# Altium schematic symbol library AltiumLib.SchLib: 341 symbols (part 5 of 5)
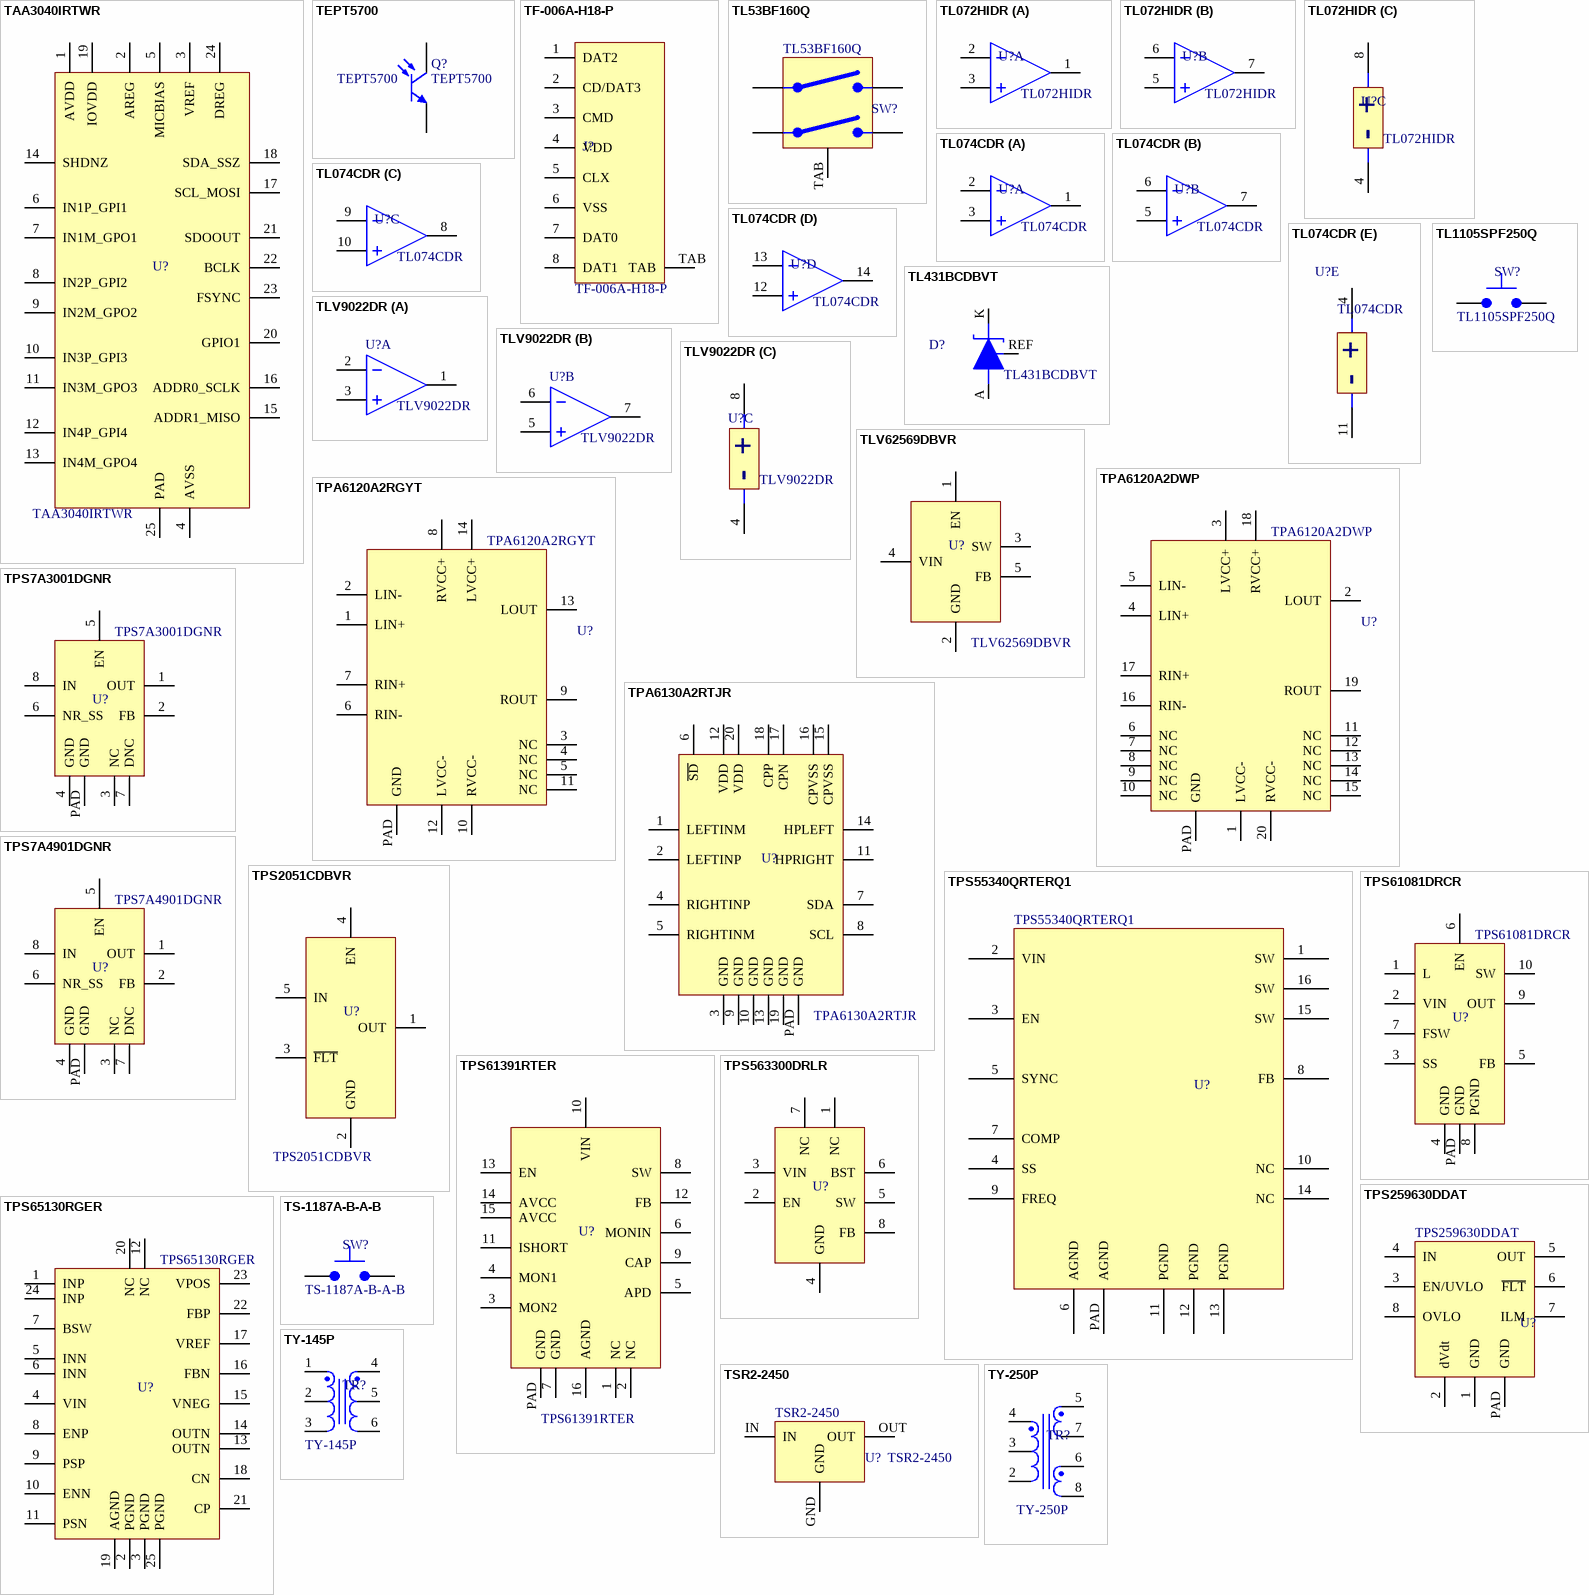
[diagram p23: symbols TAA3040IRTWR to TY-250P]

## TPS55340QRTERQ1
designator U?
Switching Regulator, Current-mode, 7.75A, 2500kHz Switching Freq-Max, PQCC16; Manufacturer: Texas Instruments; Switching Frequency-Max: 2.5MHz; Min Input Voltage: 2.9V; Switcher Configuration: BOOST; Control Technique: PULSE WIDTH MODULATION; Nominal Input Voltage: 5V; Max Input Voltage: 38V; Package Body Material: Plastic; Number of Functions: 1; Surface Mount: Yes; RoHS Compliant: Yes; Max Output Current: 7.75A; Peak Reflow Temperature (Cel): 260°C; Moisture Sensitivity Level: 2; Category: IC; Terminal Finish: Nickel; Terminal Pitch: 0.5mm; Terminal Form: No Lead; JESD-609 Code: e4; Terminal Position: QUAD; Width: 3mm; Min Operating Temperature: -40°C; Control Mode: CURRENT-MODE; Package Code: HVQCCN; Height - Seated (Max): 0.8mm; Number of Pins: 16; Sub-Category: Power; Temperature Grade: AUTOMOTIVE; REACH SVHC: Yes; Max Operating Temperature: 125°C; JESD-30 Code: S-PQCC-N16; Package Style: CHIP CARRIER, HEAT SINK/SLUG, VERY THIN PROFILEMeter; Package Shape: Square; Analog IC - Other Type: SWITCHING REGULATOR; Length: 3mm; Manufacturer Part Number: TPS55340QRTERQ1; Component Type: Standard_IC_Power; Package: QFN16; Value: TPS55340QRTERQ1
footprint PQFN50P300X300X80_HS-17N (PQFN, 16-Leads, Body 3.00x3.00mm, Pitch 0.50mm, Thermal Pad 1.66x1.66mm, IPC Medium Density)
pins: 1 SW (power), 2 VIN (power), 3 EN (power), 4 SS, 5 SYNC, 6 AGND (power), 7 COMP, 8 FB, 9 FREQ (power), 10 NC, 11 PGND (power), 12 PGND (power), 13 PGND (power), 14 NC, 15 SW (power), 16 SW (power), PAD AGND (power)

## TPS61081DRCR
designator U?
High-Voltage DC-DC Boost Converter With 0.5-A,1.3-A Integrated Switch; Manufacturer: Texas Instruments; Category: IC; Sub-Category: Power; Package: VSON10; Value: TPS61081DRCR
footprint VSON10
pins: 1 L, 2 VIN, 3 SS, 4 GND, 5 FB, 6 EN, 7 FSW, 8 PGND, 9 OUT, 10 SW, PAD GND

## TPS61391RTER
designator U?
85-VOUT Boost Converter with Current Mirror Integrated; Manufacturer: Texas Instruments; Category: IC; Sub-Category: Power; Value: TPS61391RTER
footprint QFN50P300X300X80_HS-17N (QFN, 16-Leads, Body 3,00x3,00mm, Pitch 0,50mm, Thermal Pad 1,68x1,68mm, IPC Medium Density)
pins: 1 NC, 2 NC, 3 MON2, 4 MON1, 5 APD, 6 MONIN, 7 GND, 8 SW, 9 CAP, 10 VIN, 11 ISHORT, 12 FB, 13 EN, 14 AVCC, 15 AVCC, 16 AGND, PAD GND

## TPS65130RGER
designator U?
Dual, Positive and Negative Output DC-DC Converter; Manufacturer: Texas Instruments; Category: IC; Sub-Category: Power; Package: QFN24; Value: TPS65130RGER
footprint QFN50P400X400X100_HS-25N (QFN, 24-Leads, Body 4,00x4,00mm, Pitch 0,50mm, Thermal Pad 2,45x2,45mm, IPC Medium Density)
pins: 1 INP, 2 PGND, 3 PGND, 4 VIN, 5 INN, 6 INN, 7 BSW, 8 ENP, 9 PSP, 10 ENN, 11 PSN, 12 NC, 13 OUTN, 14 OUTN, 15 VNEG, 16 FBN, 17 VREF, 18 CN, 19 AGND, 20 NC, 21 CP, 22 FBP, 23 VPOS, 24 INP, 25 PGND

## TPS259630DDAT
designator U?
2.7 to 19 V, 0.125 to 2-A, 89-mΩ eFuse With Accurate Current Monitor and Fast Overvoltage Protection; Manufacturer: Texas Instruments; Category: IC; RoHS Compliant: Yes; Sub-Category: Power; Manufacturer Part Number: TPS259630DDAT; Component Type: Standard_IC_Power; Package: SOIC8; Value: TPS259630DDAT
footprint SOIC127P600X163_HS-9N; pin to pad PAD>9
pins: 1 GND, 2 dVdt, 3 EN/UVLO, 4 IN, 5 OUT, 6 ~{FLT}, 7 ILM, 8 OVLO, PAD GND

## TPS563300DRLR
designator U?  (value not drawn)
3.8-V to 28-V, 3-A Synchronous Buck Converter in SOT583 Package; Manufacturer: Texas Instruments; Value: TPS563300DRLR; Category: IC; Sub-Category: Power; Package: SOT-583-8
footprint SOT583-8
pins: 1 NC, 2 EN, 3 VIN, 4 GND, 5 SW, 6 BST, 7 NC, 8 FB

## TS-1187A-B-A-B
designator SW?
None Without 50mA 5.1mm 100000 Times 160gf 12V 5.1mm 1.5mm Round Button Standing paste SPST SMD Tactile Switches ROHS; Manufacturer: XKB Connection; Category: Switch; Sub-Category: Tactile; Value: TS-1187A-B-A-B
footprint TS-1187A-B-A-B; pin to pad 1>A+B 2>C+D
pins: 1, 2

## TSR2-2450
designator U?
DC-DC Regulated Power Supply Module, 1 Output, 10W, Hybrid; Manufacturer: Traco Power; Package Body Material: Plastic; Min Output Voltage: 4.9V; Number of Functions: 1; Nominal Output Voltage: 5V; Load Regulation-Max: 1%; Surface Mount: No; Max Output Voltage: 5.1V; Trim/Adjustable Output: No; Nominal Input Voltage: 24V; Max Input Voltage: 36V; Min Input Voltage: 6.5V; Max Output Power: 10W; Terminal Pitch: 2.54mm; Number of Pins: 3; Terminal Form: Through Hole; Category: IC; Temperature Grade: OTHER; Package Style: MICROELECTRONIC ASSEMBLYMeter; Length: 14mm; Min Operating Temperature: -40°C; Number of Outputs: 1; Sub-Category: Power; Max Operating Temperature: 67°C; Terminal Position: SINGLE; Analog IC - Other Type: DC-DC REGULATED POWER SUPPLY MODULE; Package Shape: Rectangular; Height - Seated (Max): 10.6mm; Width: 7.5mm; RoHS Compliant: Yes; REACH SVHC: Yes; Technology: HYBRID; Manufacturer Part Number: TSR2-2450; Component Type: Standard_IC_Power; Value: TSR2-2450
footprint TSR2-2450 (Non-Isolated DC/DC Converters 6.5-36Vin 5V 2A SIP switching regulator); pin to pad GND>2 IN>1 OUT>3
pins: GND, IN, OUT

## TY-145P
designator TR?
PC Mount - Plug-In Printed Circuit Audio Transformer; Manufacturer: Triad Magnetics; Category: Inductor; Sub-Category: Transformer; Value: TY-145P
footprint TY-145P
pins: 1, 2, 3, 4, 5, 6

## TY-250P
designator TR?
PC Mount - Plug-In Printed Circuit Audio Transformers; Manufacturer: Triad Magnetics; Category: Inductor; Sub-Category: Transformer; Value: TY-250P
footprint TY-250P
pins: 2, 3, 4, 5, 6, 7, 8

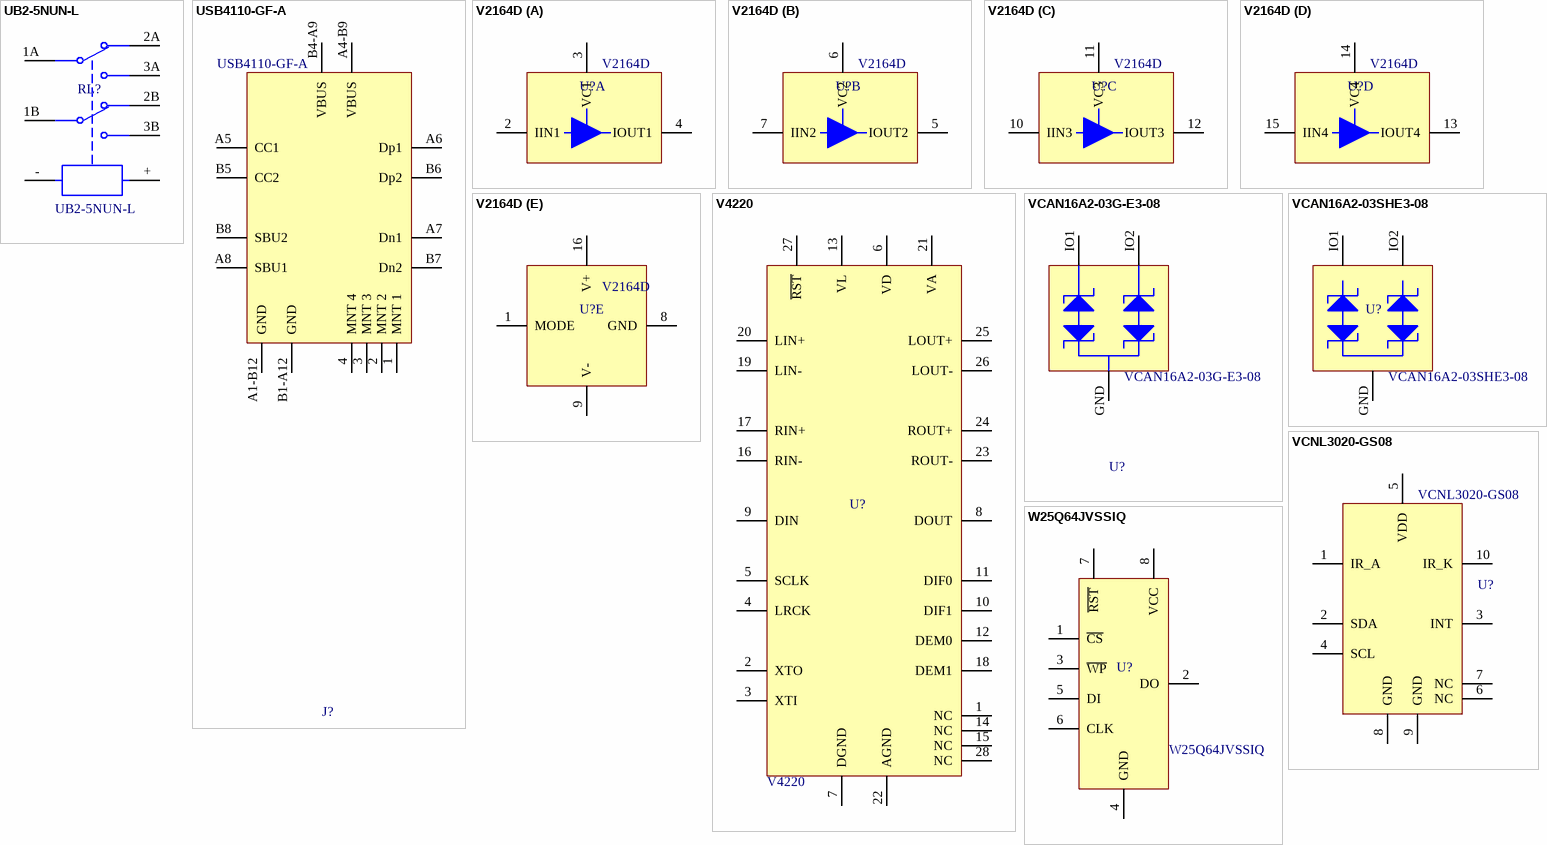
[diagram p17: symbols UB2-5NUN-L to W25Q64JVSSIQ]

## UB2-5NUN-L
designator RL?
Low Signal Relays - PCB KEMET, UB2, Relays, Signal; Manufacturer: Kemet; Category: Switch; Sub-Category: Relay; Value: UB2-5NUN-L
footprint UB2-3NUN-L
pins: 1A, 1B, 2A, 2B, 3A, 3B, +, -

## USB4110-GF-A
designator J?
Type C USB 2.0 Connector; Manufacturer: GCT; Conn Orientation: Right Angle; Usb Standard: USB 2.0; Voltage Rating: 20V; Current Rating: 3/4.25/1.25/0.25A; Number Of Contacts: 16; Is Female: yes; Shielding: true; Standoff Height: 0.1mm; Octopart: https://octopart.com/usb4110-gf-a-gct-103941985; Temperature: -40°C to +85°C; RoHS: TRUE; Automotive: No; Contact Material: Gold,Nickel; Device Class L1: Connectors; Device Class L2: USB Connectors; Package: 0; Lead Free: Yes; ComponentLink2URL: https://gct.co/files/drawings/usb4110.pdf; Temperature Range High: +85°C; Temperature Range Low: -40°C; Height: 3.46mm; Manufacturer Part Number: USB4110-GF-A; ComponentLink2Description: Datasheet; Device Class L3: unset; Digikey Description: CONN USB 2.0 TYPE-C R/A SMT; Category: Connector; Sub-Category: USB; Value: USB4110-GF-A
footprint FP-USB4110-GF-A-MFG
pins: 1 MNT 1, 2 MNT 2, 3 MNT 3, 4 MNT 4, A1-B12 GND, A4-B9 VBUS (power), A5 CC1 (power), A6 Dp1, A7 Dn1, A8 SBU1, B1-A12 GND, B4-A9 VBUS (power), B5 CC2 (power), B6 Dp2, B7 Dn2, B8 SBU2

## V2164D
designator U?
Low-Cost Quad Voltage-Controlled Amplifier; Manufacturer: Coolaudio; Category: IC; Sub-Category: Audio; Package: SOIC16; Value: V2164D
footprint SOIC127P600X175-16N (SOIC, 16-Leads, Body 10,40x3,95mm, Pitch 1,27mm, IPC Medium Density)
part A pins: 2 IIN1, 3 VC1, 4 IOUT1
part B pins: 5 IOUT2, 6 VC2, 7 IIN2
part C pins: 10 IIN3, 11 VC3, 12 IOUT3
part D pins: 13 IOUT4, 14 VC4, 15 IIN4
part E pins: 1 MODE, 8 GND, 9 V-, 16 V+

## V4220
designator U?
Low-Cost 24-Bit Stereo Codec with 110 dB Signal-to-Noise Ratio; Manufacturer: Coolaudio; Category: IC; Sub-Category: Audio; Package: SSOP28; Value: V4220
footprint SOP127P600-8N
pins: 1 NC, 2 XTO, 3 XTI, 4 LRCK, 5 SCLK, 6 VD, 7 DGND, 8 DOUT, 9 DIN, 10 DIF1, 11 DIF0, 12 DEM0, 13 VL, 14 NC, 15 NC, 16 RIN-, 17 RIN+, 18 DEM1, 19 LIN-, 20 LIN+, 21 VA, 22 AGND, 23 ROUT-, 24 ROUT+, 25 LOUT+, 26 LOUT-, 27 ~{RST}, 28 NC

## VCAN16A2-03G-E3-08
designator U?
Bidirectional Symmetrical (BiSy) Low Capacitance, Dual-Line ESD Protection Diode; Manufacturer: Vishay; RoHS Compliant: Yes; Sub-Category: TVS; Category: Diode; Manufacturer Part Number: VCAN16A2-03G-E3-08; Component Type: Standard_Diode; Package: SOT323-3; Value: VCAN16A2-03G-E3-08
footprint SOT65P210X110-3N (SOT23, 3-Leads, Body 2,00x2,10mm, Pitch 0,65mm, IPC Medium Density); pin to pad GND>3 IO1>1 IO2>2
pins: GND, IO1, IO2

## VCAN16A2-03SHE3-08
designator U?
ESD Protection Array; Manufacturer: Vishay; Category: Diode; Sub-Category: TVS; Package: SOT-323-3; Value: VCAN16A2-03SHE3-08
footprint SOT95P248X115-3N (SOT23, 3-Leads, Body 2,95x2,48mm, Pitch 0,95mm, IPC Medium Density); pin to pad GND>3 IO1>1 IO2>2
pins: GND, IO1, IO2

## VCNL3020-GS08
designator U?
Photoelectric Sensor, 1mm Min, 200mm Max, Rectangular, Surface Mount; Manufacturer: Vishay; Output Interface Type: I2C; Body Length or Diameter: 4.9mm; Min Supply Voltage: 2.5V; Sensor Type: PROXIMITY SENSOR,PHOTOELECTRIC; Body Height: 0.83mm; Operating Current-Max: 4mA; Body Breadth: 2.4inch; Max Supply Voltage: 3.6V; Sub-Category: Optical; Category: IC; Min Operating Temperature: -25°C; Mounting Technology: Surface Mount; Package Shape/Style: Rectangular; Measurement Range-Min (mm): 1mm; Termination: Solder; RoHS Compliant: Yes; Max Operating Temperature: 85°C; Measurement Range-Max (mm): 200mm; Manufacturer Part Number: VCNL3020-GS08; Component Type: Standard_IC_Optical; Value: VCNL3020-GS08
footprint VCNL3020 (Fully Integrated Proximity Sensor With Infrared Emitter,  I  2C Interface, and Interrupt Function)
pins: 1 IR_A, 2 SDA, 3 INT, 4 SCL, 5 VDD, 6 NC, 7 NC, 8 GND, 9 GND, 10 IR_K

## W25Q64JVSSIQ
designator U?
Flash NOR spiFlash, 64M-bit, 4Kb Uniform Sector; Manufacturer: Winbond; Category: IC; Sub-Category: Memory; Package: SOIC8 Wide; Value: W25Q64JVSSIQ
footprint SOIC127P790X191-8N (SOIC, 8-Leads, Body 5,23x5,23mm, Pitch 1,27mm, IPC Medium Density)
pins: 1 ~{CS}, 2 DO, 3 ~{WP}, 4 GND, 5 DI, 6 CLK, 7 ~{RST}, 8 VCC

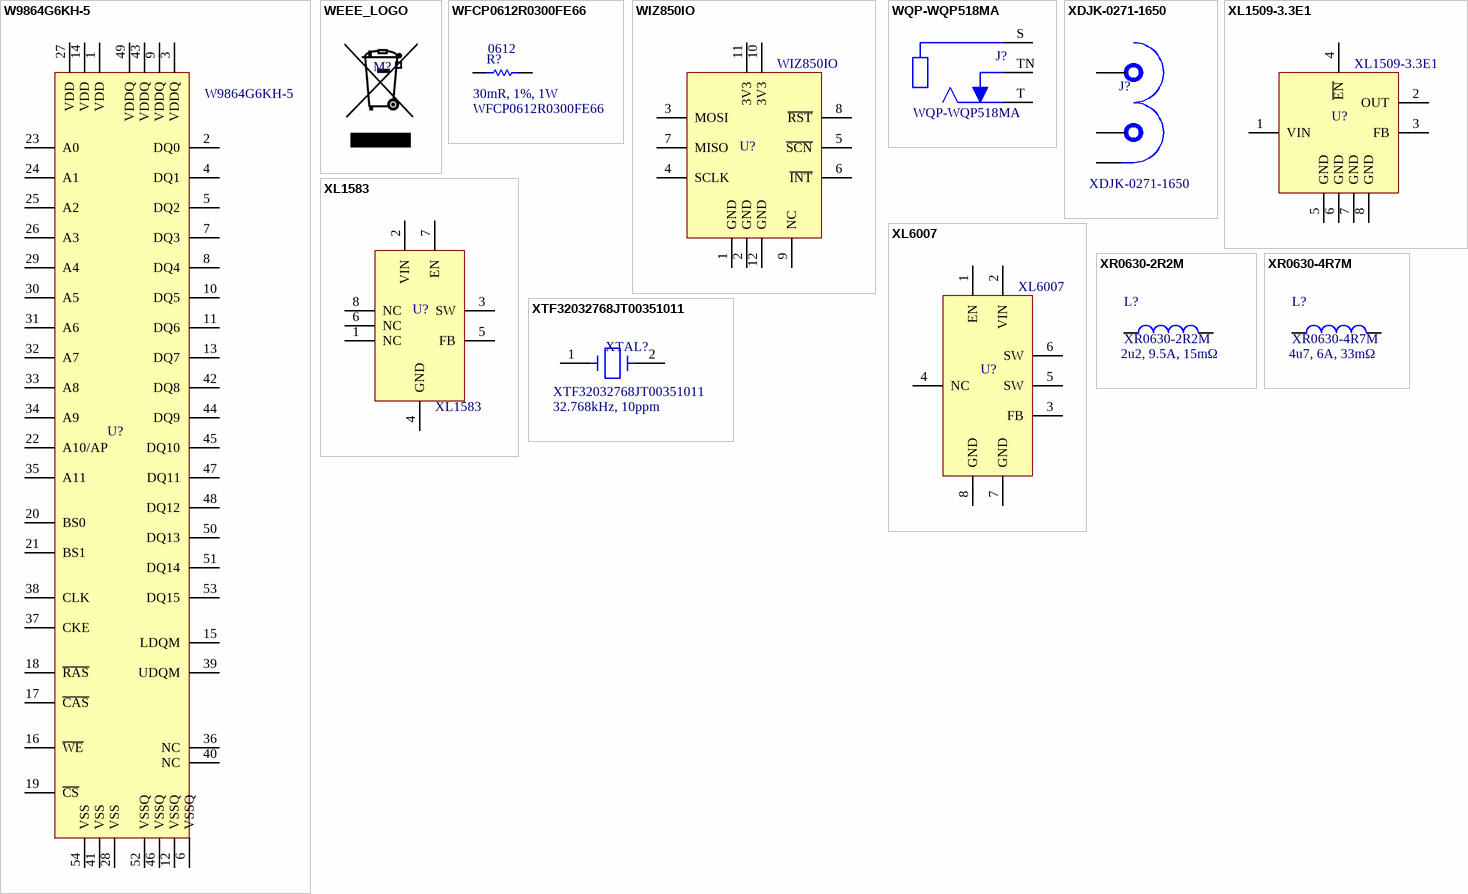
[diagram p18: symbols W9864G6KH-5 to XTF32032768JT00351011]

## W9864G6KH-5
designator U?
DRAM 64Mb, SDR SDRAM, x16, 200MHz, 46nm; Manufacturer: Winbond; Category: IC; Sub-Category: Memory; Package: TSOP54; Value: W9864G6KH-5
footprint TSOP80P1180X120-54N (TSOP, 54-Leads, Body 22,22x10,16mm, Pitch 0,80mm, IPC Medium Density)
pins: 1 VDD, 2 DQ0, 3 VDDQ, 4 DQ1, 5 DQ2, 6 VSSQ, 7 DQ3, 8 DQ4, 9 VDDQ, 10 DQ5, 11 DQ6, 12 VSSQ, 13 DQ7, 14 VDD, 15 LDQM, 16 ~{WE}, 17 ~{CAS}, 18 ~{RAS}, 19 ~{CS}, 20 BS0, 21 BS1, 22 A10/AP, 23 A0, 24 A1, 25 A2, 26 A3, 27 VDD, 28 VSS, 29 A4, 30 A5, 31 A6, 32 A7, 33 A8, 34 A9, 35 A11, 36 NC, 37 CKE, 38 CLK, 39 UDQM, 40 NC, 41 VSS, 42 DQ8, 43 VDDQ, 44 DQ9, 45 DQ10, 46 VSSQ, 47 DQ11, 48 DQ12, 49 VDDQ, 50 DQ13, 51 DQ14, 52 VSSQ, 53 DQ15, 54 VSS

## WEEE_LOGO
designator M?  (value not drawn)
5*3.5mm WEEE logo crossed out bin with rectangle; Value: WEEE_LOGO; Category: Mechanical; Sub-Category: Logo
footprint WEEE_Logo

## WFCP0612R0300FE66
designator R?  Package: 0612  Notes: 30mR, 1%, 1W  (hidden comment: WFCP0612R0300FE66)
Res 0.03 Ohm 1.0 W 1% 0612 SMD; Manufacturer: Vishay; Category: Resistor; Sub-Category: SMD; Manufacturer Part Number: WFCP0612R0300FE66; Component Type: Standard_Passive_R; Value: WFCP0612R0300FE66
footprint RESC1632X10N (Chip Resistor, 2-Leads, Body 1.60x3.20mm, IPC Medium Density)
pins: 1, 2

## WIZ850IO
designator U?
W5500 ethernet module; Manufacturer: WIZnet; Category: Module; Sub-Category: Com; Value: WIZ850IO
footprint WIZ850io (Ethernet Module)
pins: 1 GND, 2 GND, 3 MOSI, 4 SCLK, 5 ~{SCN}, 6 ~{INT}, 7 MISO, 8 ~{RST}, 9 NC, 10 3V3, 11 3V3, 12 GND

## WQP-WQP518MA
designator J?
3.5mm TS Jack, vertical 10mm height, Thonkiconn; Manufacturer: Wenzhou QingPu Electronics; Category: Connector; Sub-Category: Jack; Value: WQP-WQP518MA
footprint WQP-WQP518MA
pins: S, T, TN

## XDJK-0271-1650
designator J?
Black RCA Jack Right Angle; Manufacturer: Lian Xin Technology; Category: Connector; Sub-Category: RCA; Value: XDJK-0271-1650
footprint XDJK-0271-1650
pins: 1, 2, 3

## XL1509-3.3E1
designator U?
Step-down type 2A 4.5V~40V SOP-8 DC-DC Converters ROHS; Manufacturer: XLSEMI; Package: SOIC8; Category: IC; Sub-Category: Power; Value: XL1509-3.3E1
footprint SOIC127P600X175-8L (SOIC, 8-Leads, Body 4,90x3,90mm, Pitch 1,27mm, IPC High Density)
pins: 1 VIN, 2 OUT, 3 FB, 4 ~{EN}, 5 GND, 6 GND, 7 GND, 8 GND

## XL1583
designator U?
3A 380KHz 23V Buck DC to DC Converter; Manufacturer: XLSemi; Category: IC; Sub-Category: Power; Package: SOIC8; Value: XL1583
footprint SOIC127P600X175-8L (SOIC, 8-Leads, Body 4,90x3,90mm, Pitch 1,27mm, IPC High Density)
pins: 1 NC, 2 VIN, 3 SW, 4 GND, 5 FB, 6 NC, 7 EN, 8 NC

## XL6007
designator U?
400KHz 42V 2A Switching Current Boost/Buck-Boost/Inverting DC/DC Converter; Manufacturer: XLSemi; Category: IC; Sub-Category: Power; Package: SOIC8; Value: XL6007
footprint SOIC127P600X175-8L (SOIC, 8-Leads, Body 4,90x3,90mm, Pitch 1,27mm, IPC High Density)
pins: 1 EN, 2 VIN, 3 FB, 4 NC, 5 SW, 6 SW, 7 GND, 8 GND

## XR0630-2R2M
designator L?  Notes: 2u2, 9.5A, 15mΩ  (hidden comment: XR0630-2R2M)
10A 15mΩ 2.2uH 9.5A Molded Inductor ±20% SMD,7x6.6mm Power Inductors; Manufacturer: XR; Category: Inductor; Sub-Category: Power; Value: XR0630-2R2M
footprint XR0630
pins: 1, 2

## XR0630-4R7M
designator L?  Notes: 4u7, 6A, 33mΩ  (hidden comment: XR0630-4R7M)
33mΩ 4.7uH 6A 9A Molded Inductor ±20% SMD,7x6.6mm Power Inductors; Manufacturer: XR; Category: Inductor; Sub-Category: Power; Value: XR0630-4R7M
footprint XR0630
pins: 1, 2

## XTF32032768JT00351011
designator XTAL?  Notes: 32.768kHz, 10ppm  (hidden comment: XTF32032768JT00351011)
12pF 32.768kHz 70kΩ Crystal Oscillator ±10ppm SMD3215-2P Crystals ROHS; Manufacturer: TOGNJING; Category: Oscillator; Sub-Category: Crystal; Value: XTF32032768JT00351011
footprint XTF32032768JT00351011
pins: 1, 2

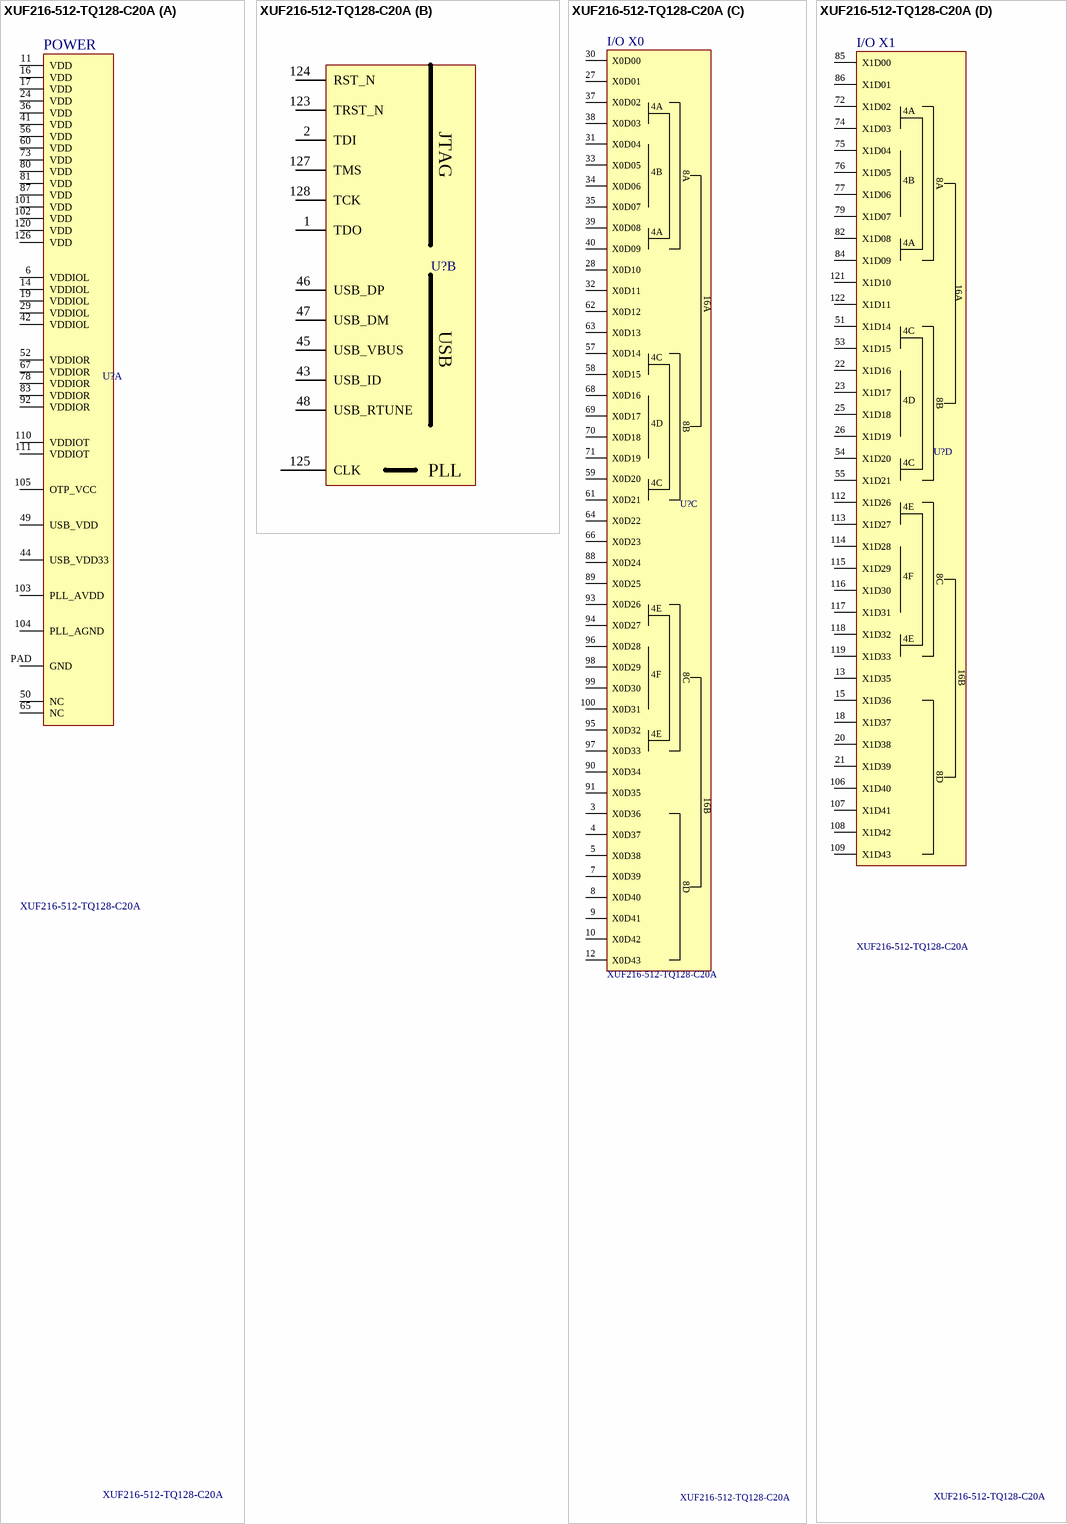
[diagram p19: symbol XUF216-512-TQ128-C20A]

## XUF216-512-TQ128-C20A
designator U?
XCore XUF Microcontroller IC 32-Bit 16-Core 1000MIPs 2MB (2M x 8) FLASH 128-TQFP (14x14); Manufacturer: XMOS; Sub-Category: CPU; Category: IC; Manufacturer Part Number: XUF216-512-TQ128-C20; Component Type: Standard_IC_CPU; Package: TQFP128; Value: XUF216-512-TQ128-C20A
footprint TSQFP40P1600X1600X120_HS-129N (TSQFP, 128-Leads, Body 14.00x14.00mm, Pitch 0.40mm, Thermal Pad 5.00x5.00mm, IPC Medium Density)
part A pins: 6 VDDIOL, 11 VDD, 14 VDDIOL, 16 VDD, 17 VDD, 19 VDDIOL, 24 VDD, 29 VDDIOL, 36 VDD, 41 VDD, 42 VDDIOL, 44 USB_VDD33, 49 USB_VDD, 50 NC, 52 VDDIOR, 56 VDD, 60 VDD, 65 NC, 67 VDDIOR, 73 VDD, 78 VDDIOR, 80 VDD, 81 VDD, 83 VDDIOR, 87 VDD, 92 VDDIOR, 101 VDD, 102 VDD, 103 PLL_AVDD, 104 PLL_AGND, 105 OTP_VCC, 110 VDDIOT, 111 VDDIOT, 120 VDD, 126 VDD, PAD GND
part B pins: 1 TDO, 2 TDI, 43 USB_ID, 45 USB_VBUS, 46 USB_DP, 47 USB_DM, 48 USB_RTUNE, 123 TRST_N, 124 RST_N, 125 CLK, 127 TMS, 128 TCK
part C pins: 3 X0D36, 4 X0D37, 5 X0D38, 7 X0D39, 8 X0D40, 9 X0D41, 10 X0D42, 12 X0D43, 27 X0D01, 28 X0D10, 30 X0D00, 31 X0D04, 32 X0D11, 33 X0D05, 34 X0D06, 35 X0D07, 37 X0D02, 38 X0D03, 39 X0D08, 40 X0D09, 57 X0D14, 58 X0D15, 59 X0D20, 61 X0D21, 62 X0D12, 63 X0D13, 64 X0D22, 66 X0D23, 68 X0D16, 69 X0D17, 70 X0D18, 71 X0D19, 88 X0D24, 89 X0D25, 90 X0D34, 91 X0D35, 93 X0D26, 94 X0D27, 95 X0D32, 96 X0D28, 97 X0D33, 98 X0D29, 99 X0D30, 100 X0D31
part D pins: 13 X1D35, 15 X1D36, 18 X1D37, 20 X1D38, 21 X1D39, 22 X1D16, 23 X1D17, 25 X1D18, 26 X1D19, 51 X1D14, 53 X1D15, 54 X1D20, 55 X1D21, 72 X1D02, 74 X1D03, 75 X1D04, 76 X1D05, 77 X1D06, 79 X1D07, 82 X1D08, 84 X1D09, 85 X1D00, 86 X1D01, 106 X1D40, 107 X1D41, 108 X1D42, 109 X1D43, 112 X1D26, 113 X1D27, 114 X1D28, 115 X1D29, 116 X1D30, 117 X1D31, 118 X1D32, 119 X1D33, 121 X1D10, 122 X1D11
part A text: POWER
part B text: JTAG; USB; PLL
part C text: I/O X0; 4A; 8A; 4B; 16A; 4C; 8B; 4D; 4E; 8C; 4F; 16B; 8D
part D text: I/O X1; 4A; 8A; 4B; 16A; 4C; 8B; 4D; 4E; 8C; 4F; 16B; 8D